# Altium schematic symbol library sensor.SchLib: 2 symbols
Pins are listed as number, name and electrical type; pins without a type are passive.

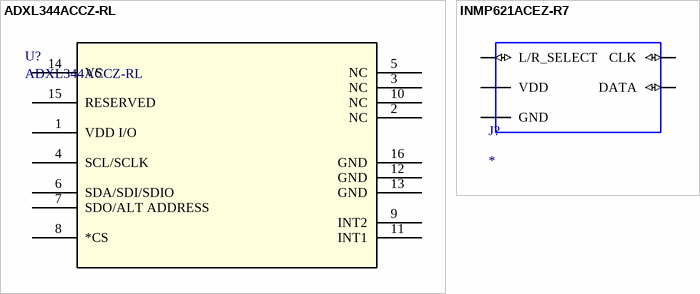
[diagram p0: symbols ADXL344ACCZ-RL to INMP621ACEZ-R7]

## ADXL344ACCZ-RL
designator U?
No Description Available; Vendor: Analog Devices Inc; Built_By: EMA_UL_Team; SourceLibrary: Analog_2015-12-15; Manufacturer_Part_Number: ADXL344ACCZ-RL; Copyright: Copyright (C) 2018 Accelerated Designs. All rights reserved; RefDes: RefDes; Type: DEV
footprint LGA_CC-16-3_ADI
pins: 1 VDD I/O, 2 NC, 3 NC, 4 SCL/SCLK, 5 NC, 6 SDA/SDI/SDIO, 7 SDO/ALT ADDRESS, 8 *CS, 9 INT2, 10 NC, 11 INT1, 12 GND, 13 GND, 14 VS, 15 RESERVED, 16 GND

## INMP621ACEZ-R7
designator J?
45Hz ~ 20kHz Digital, PDM Microphone MEMS (Silicon) 1.62V ~ 3.63V Omnidirectional (-46dB Â±2dB @ 94dB SPL) Solder Pads; MP: INMP621ACEZ-R7; MF: TDK InvenSense; Check_prices: https://www.snapeda.com/parts/INMP621ACEZ-R7/TDK%20InvenSense/view-part/74120/?ref=eda; SnapEDA_Link: https://www.snapeda.com/parts/INMP621ACEZ-R7/TDK%20InvenSense/view-part/74120/?ref=snap; Price: None; Availability: Warning; Value: *; Purchase-URL: https://pricing.snapeda.com/search/part/INMP621ACEZ-R7/?ref=eda; Package: QFN-16 TDK InvenSense
footprint INMP621ACEZ-R7
pins: CLK (io), DATA (io), GND@1 GND (power), GND@2 GND (power), GND@3 GND (power), GND@4 GND (power), GND@5 GND (power), GND@6 GND (power), GND@7 GND (power), GND@8 GND (power), GND@9 GND (power), GND@10 GND (power), GND@11 GND (power), SELECT L/R_SELECT (io), VDD (power)